# Altium footprint library LED_CAP_RES_0603.PcbLib: 1 footprints
Each footprint in its own frame and in the unit in brackets; x right, y up, seen from the top. Pads: shape width x height; smd on the part's side, far side on the other; paste and mask are expansions set on the pad; w line width, h text height; cw(c..) or ccw(c..) is an arc to the next point about the centre after c.
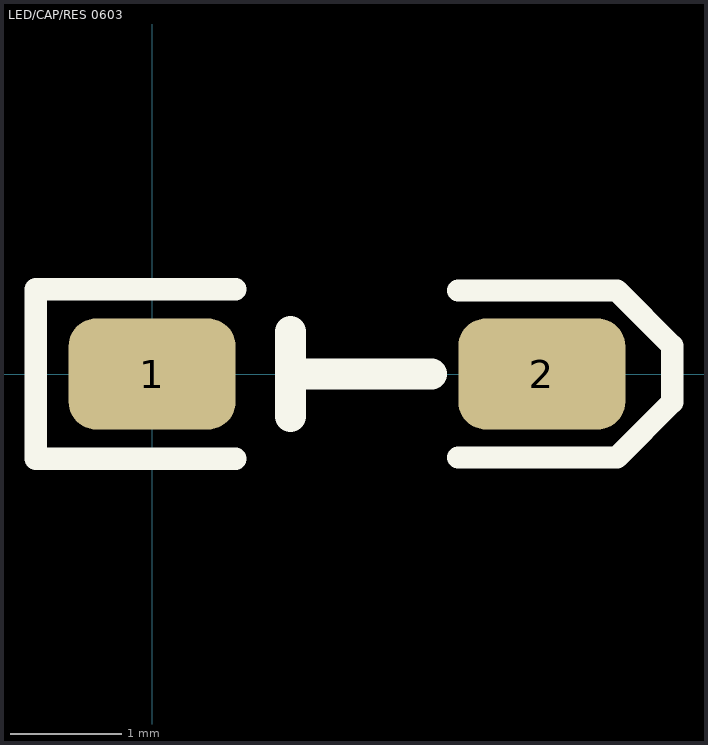
[diagram p0: the footprint, top view; thin cyan lines are the x and y axes]

## LED/CAP/RES 0603 [mm]
pads (2):
  rrect50% 1.5x1 smd: 1(0,0) 2(3.5,0)
Top Overlay:
  lines w0.2: 0.75,-0.762 -1.044,-0.762 -1.044,0.762 0.75,0.762 ; 2.75,-0.75 4.175,-0.75 4.671,-0.254 4.671,0.254 4.175,0.75 2.75,0.75
  lines w0.278: 1.242,-0.381 1.242,0.381 ; 1.242,0 2.512,0